# EAGLE library part WE-FB_LT35XX/LT3748_EE20/10/6 (library Wurth_Elektronik_Passive_rev16a)
WE-FB Flyback Transformer LT35xx / LT3748 Characteristics Standard transformers for various output voltages currents available Easy design of custom power supply due to standard circuit and change of transformers and two components for feedback loop Isolation voltage up to 2.5 kV Applications Isolated power design Sensor interfaces Isolated telecom converters Power over Ethernet <http://katalog.we-online.de/media/images/eisos/UtFB_LT_MID_pf2.jpg> Details see: http://katalog.we-online.de/en/pbs/WE-FB_Linear? Updated 2015-04-03 2015 (C) Wurth Elektronik
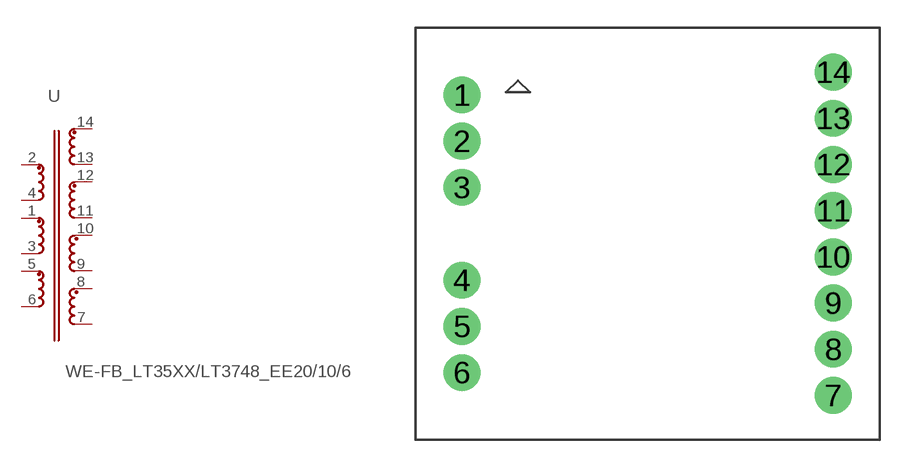
[diagram p93: symbol with the pads of WE-FB_EE20/10/6; footprint WE-FB_EE20/10/6]

Designator prefix -

## WE-FB_LT35XX/LT3748_EE20/10/6_750311911  [WE-FB_EE20/10/6]
1  13  pas
2  1  pas
3  12  pas
4  14  pas
5  11  pas
6  10  pas
7  9  pas
8  8  pas
9  7  pas
10  6  pas
11  5  pas
12  4  pas
13  3  pas
14  2  pas

## Footprint WE-FB_EE20/10/6 (pad centres in mm)
drill 1.32: 1 -10,7.48; 2 -10,4.99; 3 -10,2.5; 4 -10,-2.5; 5 -10,-4.99; 6 -10,-7.48; 7 10,-8.715; 8 10,-6.225; 9 10,-3.735; 10 10,-1.245; 11 10,1.245; 12 10,3.735; 13 10,6.225; 14 10,8.715